# Altium footprint library DPAK228P988X240-3N_STPS8L30B-TR.PcbLib: 1 footprints
Each footprint in its own frame and in the unit in brackets; x right, y up, seen from the top. Pads: shape width x height; smd on the part's side, far side on the other; paste and mask are expansions set on the pad; w line width, h text height; cw(c..) or ccw(c..) is an arc to the next point about the centre after c.
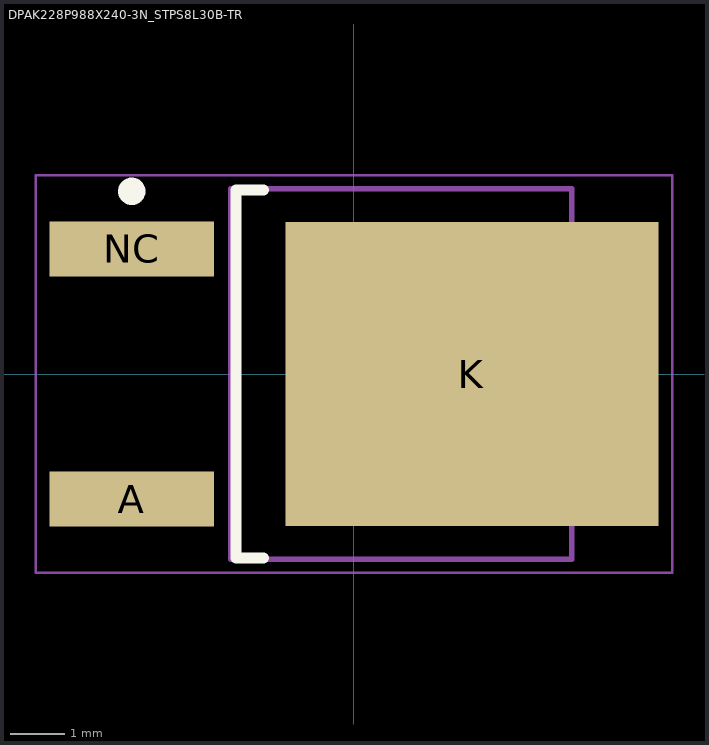
[diagram p0: the footprint, top view; thin cyan lines are the x and y axes]

## DPAK228P988X240-3N_STPS8L30B-TR [mm] "D-PAK, 3-Pads, Body 6.21x6.73mm (max), IPC Medium Density"
height 2.4
pads (3):
  rect 3x1 smd: A(-4.05,-2.28) NC(-4.05,2.28)
  rect 6.8x5.55 smd: K(2.15,0)
Top Overlay:
  circle w0.25: c-4.05,3.33 r0.125
  lines w0.2: -1.65,-3.35 -2.15,-3.35 -2.15,3.35 -1.65,3.35
Top Assembly:
  lines w0.1: -2.25,-3.375 -2.25,3.375 3.97,3.375 3.97,-3.375 -2.25,-3.375
Top Courtyard:
  lines w0.05: -5.8,-3.625 -5.8,3.625 5.8,3.625 5.8,-3.625 -5.8,-3.625
  lines w0.1: -0.5,0 0.5,0 ; 0,-0.5 0,0.5
3D body "DPAK228P988X240-3N.step": height 2.4, standoff 0, extent -4.405,-3.375 5.47,3.375